# EAGLE library part DUAL_BIDIRECTIONAL_BUS_BUFFER_OC (library everykey)
Dual bidirectional bus buffer for open-collector busses, e.g. I2C. For example, NXP PCA9600 SOIC8: PCA9600D
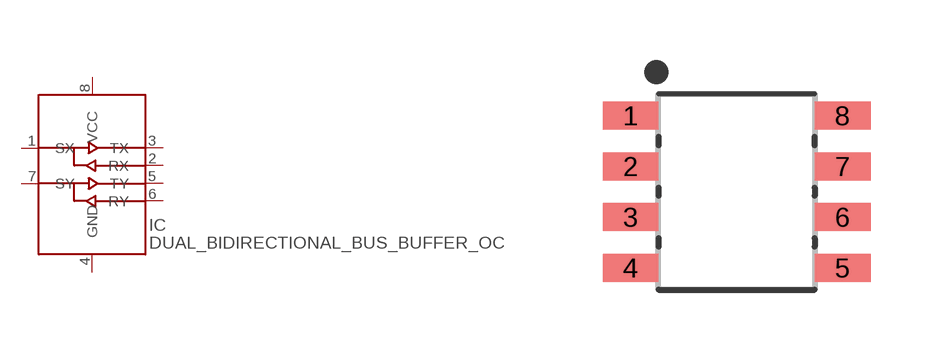
[diagram p58: symbol with the pads of SOIC8-150MIL; footprint SOIC8-150MIL]

Designator prefix IC

## DUAL_BIDIRECTIONAL_BUS_BUFFER_OCSO8  [SOIC8-150MIL]
1  SX
2  RX
3  TX
4  GND
5  TY
6  RY
7  SY
8  VCC

## Footprint SOIC8-150MIL (pad centres in mm)
SOIC-8 package for 150mil (3.8-4mm) wide body.
smd 1.4 x 0.7: 1 -2.65,1.905; 2 -2.65,0.635; 3 -2.65,-0.635; 4 -2.65,-1.905; 5 2.65,-1.905; 6 2.65,-0.635; 7 2.65,0.635; 8 2.65,1.905